# Altium schematic symbol library MAX8510EXK29+T.SchLib: 1 symbol
Pins are listed as number, name and electrical type; pins without a type are passive.

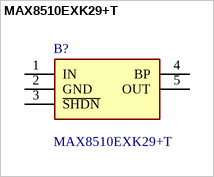
[diagram p0: symbol MAX8510EXK29+T]

## MAX8510EXK29+T
designator B?
Fixed LDO Voltage Regulator, 2V-6V in, 135mV Dropout, 2.85V/120mA out, SC-70-5; Manufacturer_Name: Analog Devices; Geometry.Height: 1.1mm; Mouser Part Number: 700-MAX8510EXK29T; Mouser Price/Stock: https://www.mouser.co.uk/ProductDetail/Maxim-Integrated/MAX8510EXK29%2bT?qs=Jw2w9zrI6w%252BbZa1dXLYLrw%3D%3D; Manufacturer_Part_Number: MAX8510EXK29+T; Datasheet Link: https://www.analog.com/media/en/technical-documentation/data-sheets/max8510-max8512.pdf
footprint SOT65P210X110-5N
pins: 1 IN, 2 GND, 3 ~{SHDN}, 4 BP, 5 OUT